# Altium schematic symbol library MIMXRT1021xAFxx核心板V1.1原理库.SchLib: 1 symbol
Pins are listed as number, name and electrical type; pins without a type are passive.

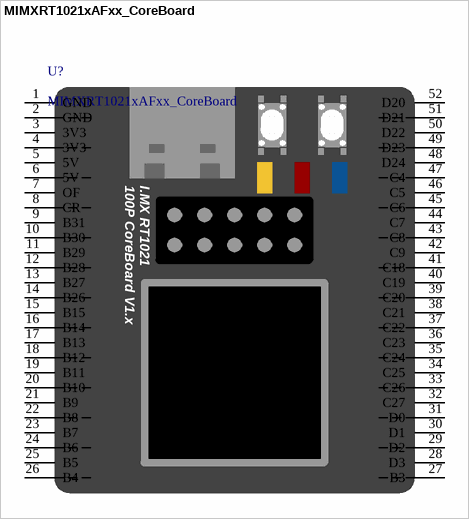
[diagram p0: symbol MIMXRT1021xAFxx_CoreBoard]

## MIMXRT1021xAFxx_CoreBoard
designator U?
逐飞科技i.MX RT1021 100脚核心板整体原理，可直接使用
footprint MIMXRT1021xAFxx_CoreBoard_V1.x (Footprint not found)
pins: 1 GND, 2 GND, 3 3V3, 4 3V3, 5 5V, 6 5V, 7 OF, 8 CR, 9 B31, 10 B30, 11 B29, 12 B28, 13 B27, 14 B26, 15 B15, 16 B14, 17 B13, 18 B12, 19 B11, 20 B10, 21 B9, 22 B8, 23 B7, 24 B6, 25 B5, 26 B4, 27 B3, 28 D3, 29 D2, 30 D1, 31 D0, 32 C27, 33 C26, 34 C25, 35 C24, 36 C23, 37 C22, 38 C21, 39 C20, 40 C19, 41 C18, 42 C9, 43 C8, 44 C7, 45 C6, 46 C5, 47 C4, 48 D24, 49 D23, 50 D22, 51 D21, 52 D20
text: 100P CoreBoard V1.x; I.MX RT1021